# EAGLE library part 638207122008 (library WR-FAST)
WR-FAST 5.08 mm THT Male Header Angled Blade 2863 KIND PROPERTIES Pitch 5.08 mm Gender Male MATERIAL PROPERTIES Insulator Material PC Insulator Flammability Rating UL94 V-0 Insulator Color Black Contact Material Steel Contact Plating Tin Contact Type Stamped GENERAL INFORMATION Operating Temperature -30 up to +120 °C Working Voltage 300 V (AC) Withstanding Voltage 1600 V (AC) Contact Resistance 20 mΩ RISO 5 MΩ IR 16 A CERTIFICATION cULus Approval E150931 PACKAGING PROPERTIES Packaging Box <https://www.we-online.com/catalog/media/o166976v209%20Family_WR-FAST_638207122003.jpg> Details see: https://www.we-online.com/catalog/en/FAST_5_08_THT_MALE_ANGLED_6382071220XX/ Updated by Ella Wu 2020-08-11 2020(C) Wurth Elektronik
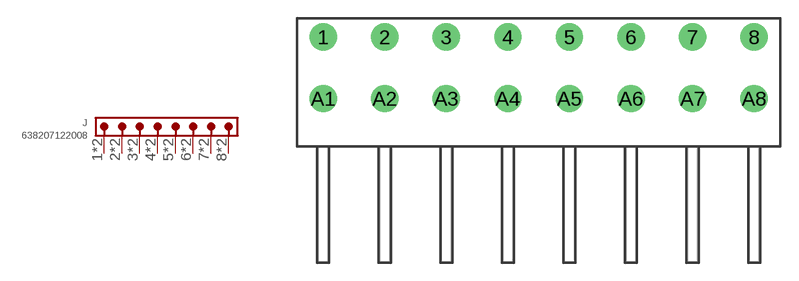
[diagram p6: symbol with the pads of 638207122008; footprint 638207122008]

Designator prefix J

## 638207122008 (CONTACT-RESISTANCE: 20mOhm; DATASHEET-URL: https://www.we-online.com/catalog/datasheet/638207122008.pdf; GENDER: Male; IR: 16A; MOUNT: THT; PART-NUMBER: 638207122008; PINS: 8; PITCH: 5.08mm; TYPE: Right Angled; VALUE: 638207122008; WORKING-VOLTAGE: 300V(AC))  [638207122008]
1  1  pas
2  2  pas
3  3  pas
4  4  pas
5  5  pas
6  6  pas
7  7  pas
8  8  pas
A1  1  pas
A2  2  pas
A3  3  pas
A4  4  pas
A5  5  pas
A6  6  pas
A7  7  pas
A8  8  pas

## Footprint 638207122008 (pad centres in mm)
WR-FAST 5.08 mm THT Male Header Angled Blade 2863 8pins
drill 1.5: 1 -17.78,2.54; 2 -12.7,2.54; 3 -7.62,2.54; 4 -2.54,2.54; 5 2.54,2.54; 6 7.62,2.54; 7 12.7,2.54; 8 17.78,2.54; A1 -17.78,-2.54; A2 -12.7,-2.54; A3 -7.62,-2.54; A4 -2.54,-2.54; A5 2.54,-2.54; A6 7.62,-2.54; A7 12.7,-2.54; A8 17.78,-2.54